# EAGLE library part USB_A_PLUG (library ERNW_parts)
USB A PLUG Datasheet <http://www.farnell.com/datasheets/1673631.pdf>
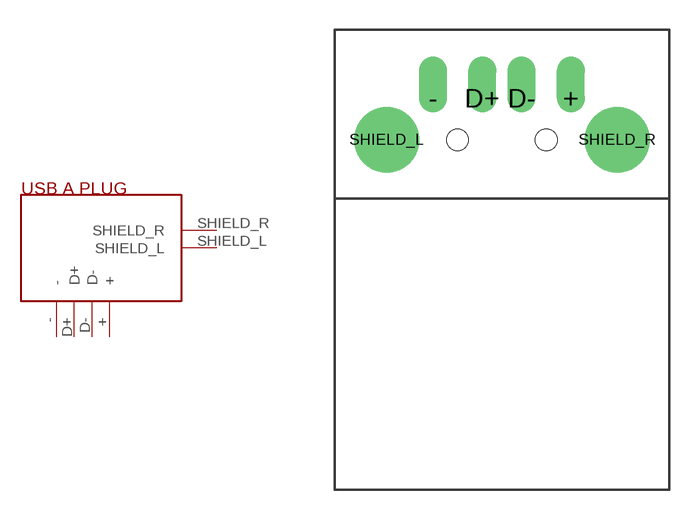
[diagram p1: symbol with the pads of USB_A_PLUG_THT; footprint USB_A_PLUG_THT]

Designator prefix -

## USB_A_PLUG  [USB_A_PLUG_THT]
+  +
-  -
D+  D+
D-  D-
SHIELD_L  SHIELD_L
SHIELD_R  SHIELD_R

## Footprint USB_A_PLUG_THT (pad centres in mm)
USB A PLUG Datasheet <http://www.farnell.com/datasheets/1673631.pdf>
drill 0.92 offset: + 3.5,0; - -3.5,0; D+ -1,0; D- 1,0
drill 2.3: SHIELD_L -5.85,-2.1; SHIELD_R 5.85,-2.1
hole 1.1 at -2.25,-2.1
hole 1.1 at 2.25,-2.1